# Altium footprint library ESP-WROOM-32.PcbLib: 1 footprints
Each footprint in its own frame and in the unit in brackets; x right, y up, seen from the top. Pads: shape width x height; smd on the part's side, far side on the other; paste and mask are expansions set on the pad; w line width, h text height; cw(c..) or ccw(c..) is an arc to the next point about the centre after c.
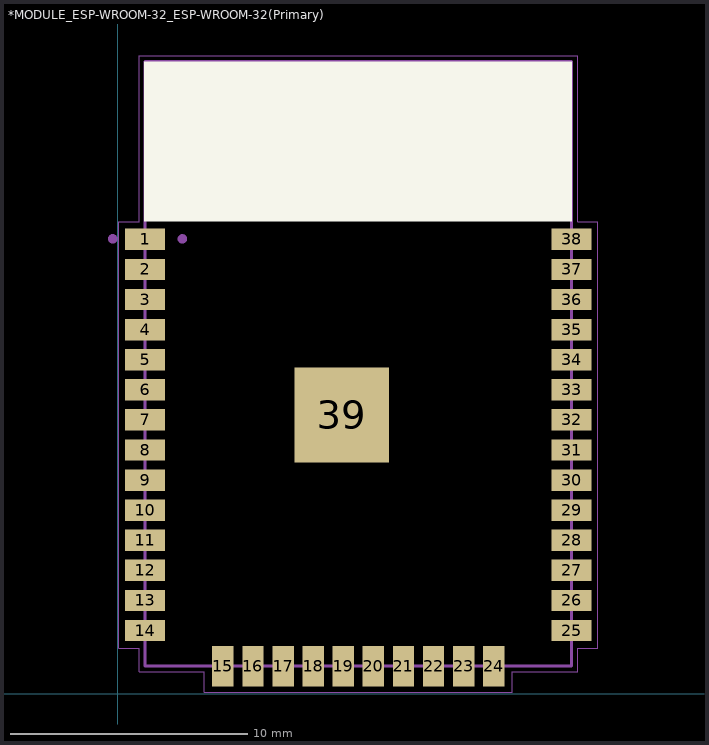
[diagram p0: the footprint, top view; thin cyan lines are the x and y axes]

## *MODULE_ESP-WROOM-32_ESP-WROOM-32(Primary) [mm]
pads (39):
  rect 1.7x0.9 smd: 1(1.16,19.177) 2(1.16,17.907) 3(1.16,16.637) 4(1.16,15.367) 5(1.16,14.097) 6(1.16,12.827) 7(1.16,11.557) 8(1.16,10.287) 9(1.16,9.017) 10(1.16,7.747) 11(1.16,6.477) 12(1.16,5.207) 13(1.16,3.937) 14(1.16,2.667) 25(19.16,2.667) 26(19.16,3.937) 27(19.16,5.207) 28(19.16,6.477) 29(19.16,7.747) 30(19.16,9.017) 31(19.16,10.287) 32(19.16,11.557) 33(19.16,12.827) 34(19.16,14.097) 35(19.16,15.367) 36(19.16,16.637) 37(19.16,17.907) 38(19.16,19.177)
  rect 0.9x1.7 smd: 15(4.445,1.167) 16(5.715,1.167) 17(6.985,1.167) 18(8.255,1.167) 19(9.525,1.167) 20(10.795,1.167) 21(12.065,1.167) 22(13.335,1.167) 23(14.605,1.167) 24(15.875,1.167)
  rect 4x4 smd: 39(9.46,11.767)
Top Overlay:
  region: 1.134,26.672 19.16,26.672 19.16,19.948 1.134,19.948
  region: 1.148,26.672 19.16,26.672 19.16,19.934 1.148,19.934
  region: 1.136,26.672 19.16,26.672 19.16,19.946 1.136,19.946
  region: 1.134,26.672 19.16,26.672 19.16,19.948 1.134,19.948
  region: 1.148,26.672 19.16,26.672 19.16,19.934 1.148,19.934
  region: 1.136,26.672 19.16,26.672 19.16,19.946 1.136,19.946
  region: 1.134,26.672 19.16,26.672 19.16,19.948 1.134,19.948
  region: 1.148,26.672 19.16,26.672 19.16,19.934 1.148,19.934
  region: 1.136,26.672 19.16,26.672 19.16,19.946 1.136,19.946
Mechanical 1:
  circle w0.2: c-0.205,19.197 r0.1
  region: 2.138,25.922 2.66,25.922 2.66,21.451 2.138,21.451
  region: 2.151,25.922 5.16,25.922 5.16,25.438 2.151,25.438
  region: 4.638,25.422 5.16,25.422 5.16,22.969 4.638,22.969
  region: 4.652,23.422 7.66,23.422 7.66,22.94 4.652,22.94
  region: 7.15,25.422 7.66,25.422 7.66,22.963 7.15,22.963
  region: 7.15,25.922 10.16,25.922 10.16,25.471 7.15,25.471
  region: 9.658,25.422 10.16,25.422 10.16,22.971 9.658,22.971
  region: 9.658,23.422 12.66,23.422 12.66,22.972 9.658,22.972
  region: 12.169,25.422 12.66,25.422 12.66,22.975 12.169,22.975
  region: 12.172,25.922 17.66,25.922 17.66,25.436 12.172,25.436
  region: 17.181,25.922 17.66,25.922 17.66,20.952 17.181,20.952
  region: 14.674,25.922 15.16,25.922 15.16,20.953 14.674,20.953
  region: 17.179,20.922 17.66,20.922 17.66,20.448 17.179,20.448
  region: 14.668,20.922 15.16,20.922 15.16,20.439 14.668,20.439
  region: 2.14,21.422 2.66,21.422 2.66,20.947 2.14,20.947
  region: 12.168,25.922 12.66,25.922 12.66,24.476 12.168,24.476
  lines w0.127: 1.16,1.922 1.16,1.172 3.66,1.172 ; 1.16,20.172 1.16,26.672 19.16,26.672 19.16,20.172 ; 16.66,1.172 19.16,1.172 19.16,1.922
Mechanical 13:
  circle w0.2: c2.735,19.197 r0.1
  circle w0.2: c2.735,19.197 r0.1
  region: 2.122,25.922 2.66,25.922 2.66,21.472 2.122,21.472
  region: 2.119,25.922 5.16,25.922 5.16,25.496 2.119,25.496
  region: 4.642,25.422 5.16,25.422 5.16,22.962 4.642,22.962
  region: 4.644,23.422 7.66,23.422 7.66,22.956 4.644,22.956
  region: 7.15,25.422 7.66,25.422 7.66,22.963 7.15,22.963
  region: 7.154,25.922 10.16,25.922 10.16,25.453 7.154,25.453
  region: 9.658,25.422 10.16,25.422 10.16,22.962 9.658,22.962
  region: 9.659,23.422 12.66,23.422 12.66,22.934 9.659,22.934
  region: 12.168,25.422 12.66,25.422 12.66,22.968 12.168,22.968
  region: 12.175,25.922 17.66,25.922 17.66,25.463 12.175,25.463
  region: 17.186,25.922 17.66,25.922 17.66,20.959 17.186,20.959
  region: 14.675,25.922 15.16,25.922 15.16,20.955 14.675,20.955
  region: 17.182,20.922 17.66,20.922 17.66,20.451 17.182,20.451
  region: 14.683,20.922 15.16,20.922 15.16,20.47 14.683,20.47
  region: 2.133,21.422 2.66,21.422 2.66,20.955 2.133,20.955
  region: 12.168,25.922 12.66,25.922 12.66,24.473 12.168,24.473
  region: 2.122,25.922 2.66,25.922 2.66,21.472 2.122,21.472
  region: 2.119,25.922 5.16,25.922 5.16,25.496 2.119,25.496
  region: 4.642,25.422 5.16,25.422 5.16,22.962 4.642,22.962
  region: 4.644,23.422 7.66,23.422 7.66,22.956 4.644,22.956
  region: 7.15,25.422 7.66,25.422 7.66,22.963 7.15,22.963
  region: 7.154,25.922 10.16,25.922 10.16,25.453 7.154,25.453
  region: 9.658,25.422 10.16,25.422 10.16,22.962 9.658,22.962
  region: 9.659,23.422 12.66,23.422 12.66,22.934 9.659,22.934
  region: 12.168,25.422 12.66,25.422 12.66,22.968 12.168,22.968
  region: 12.175,25.922 17.66,25.922 17.66,25.463 12.175,25.463
  region: 17.186,25.922 17.66,25.922 17.66,20.959 17.186,20.959
  region: 14.675,25.922 15.16,25.922 15.16,20.955 14.675,20.955
  region: 17.182,20.922 17.66,20.922 17.66,20.451 17.182,20.451
  region: 14.683,20.922 15.16,20.922 15.16,20.47 14.683,20.47
  region: 2.133,21.422 2.66,21.422 2.66,20.955 2.133,20.955
  region: 12.168,25.922 12.66,25.922 12.66,24.473 12.168,24.473
  lines w0.127: 1.16,1.167 19.16,1.167 ; 1.16,1.167 1.16,26.667 ; 1.16,1.167 19.16,1.167 ; 1.16,1.167 1.16,26.667 ; 1.16,26.667 19.16,26.667 ; 1.16,26.667 19.16,26.667 ; 19.16,1.167 19.16,26.667 ; 19.16,1.167 19.16,26.667
Mechanical 15:
  lines w0.05: 0.06,1.922 0.91,1.922 0.91,0.922 3.66,0.922 3.66,0.067 16.66,0.067 16.66,0.922 19.41,0.922 19.41,1.922 20.26,1.922 20.26,19.922 19.41,19.922 19.41,26.922 0.91,26.922 0.91,19.922 0.06,19.922 0.06,1.922